# Altium integrated library Renesas Microprocessor SuperH.IntLib: 433 symbols (part 60 of 62)
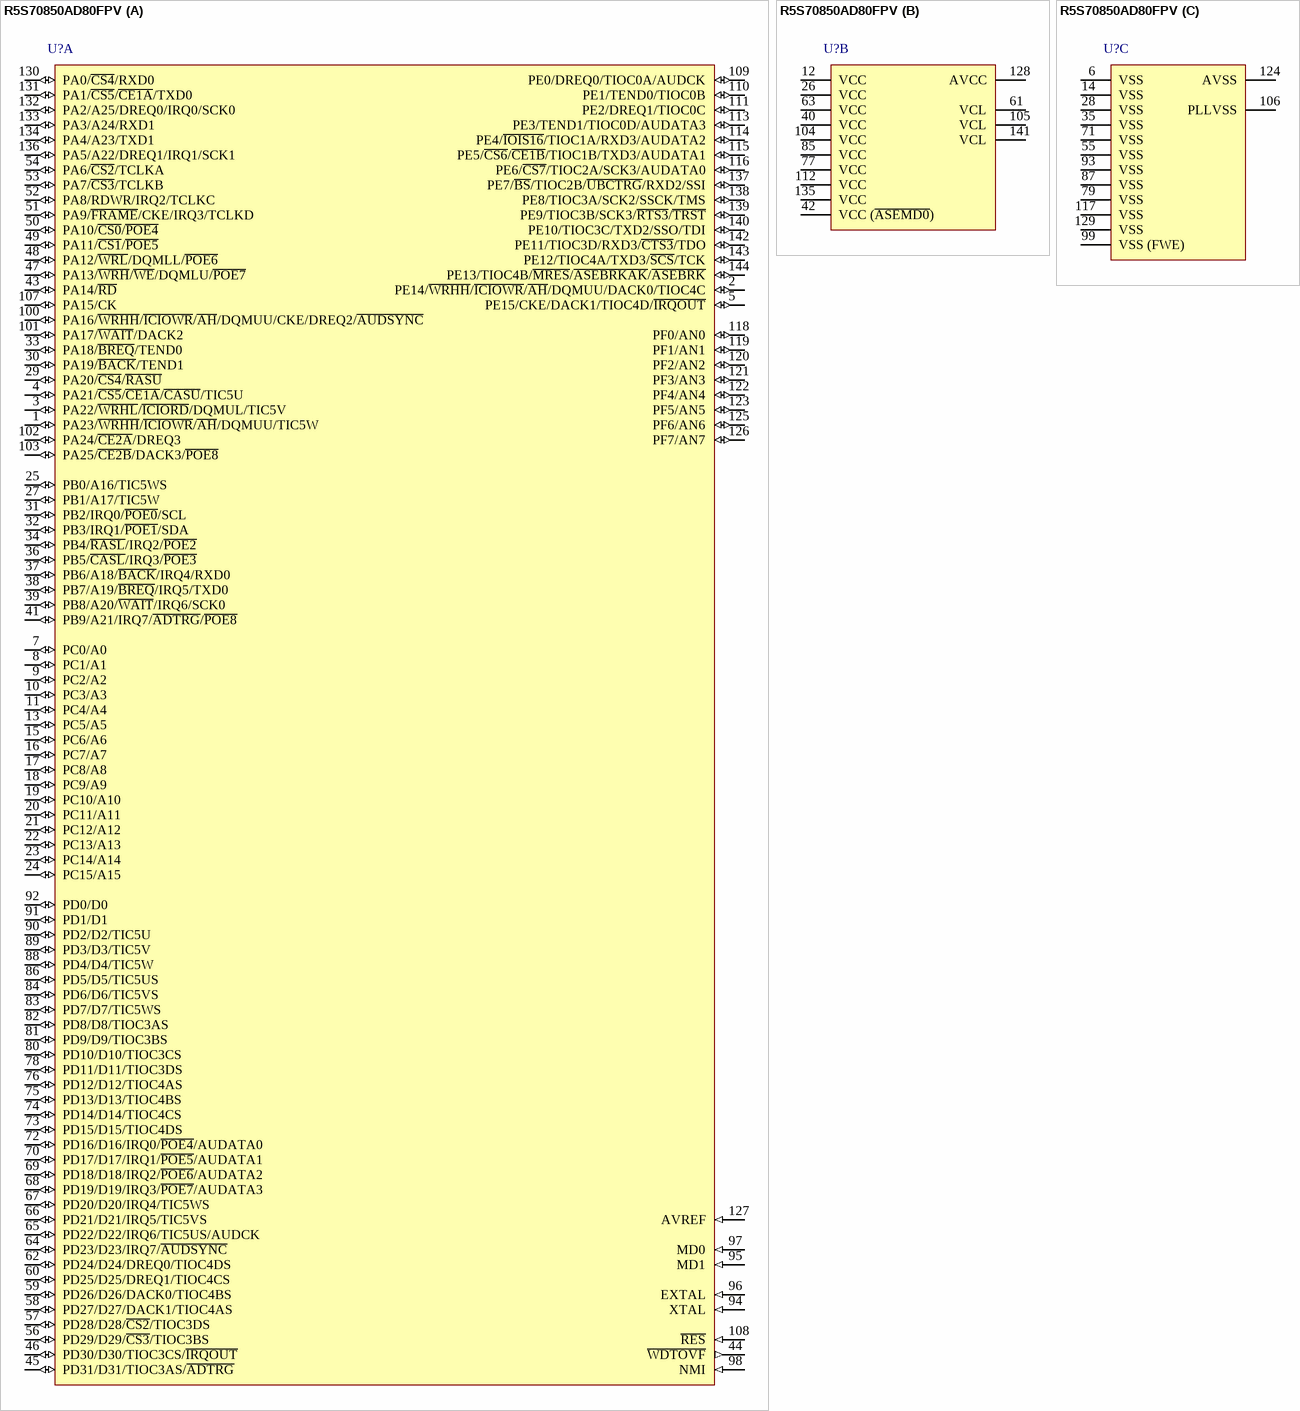
[diagram p415: symbol R5S70850AD80FPV]

## R5S70850AD80FPV
designator U?
32-Bit RISC Microcomputer, SH7080 Series, SH-2 core, 80MHz, 16K RAM, 144-pin PLQFP, -40 to 85°C; Published: 28-Aug-2009; LatestRevisionDate: 15-Feb-2010; LatestRevisionNote: Updated to datasheet revision 4.00 Dec-2009.; DatasheetVersion: Rev.4.00, Dec-2009; PackageVersion: Sep-2005; PackageReference: PLQP0144KA-A; Publisher: Altium Limited; PackageDescription: 144-Pin Plastic Low Profile QFP, 20 x 20 x 1.4 mm Body, 0.5 mm Pitch; Code_JEITA: P-LQFP144-20x20-0.50; Code_IPC: SQFP50P2200X2200-144; ComponentLink1Description: Manufacturer Link; ComponentLink1URL: http://www.renesas.com/fmwk.jsp?cnt=sh7080_root.jsp&fp=/products/mpumcu/superh_family/sh7080_series/sh7080_group/; ComponentLink2Description: Datasheet; ComponentLink2URL: http://documentation.renesas.com/eng/products/mpumcu/rej09b0181_sh7080.pdf; ComponentLink3Description: Packaging Specification; ComponentLink3URL: http://sg.renesas.com/media/products/common_info/package/pdf/ic/code/plqp0144ka_a.pdf
footprint PLQP0144KA-A_N (Shrink QFP, 144-Leads, Body 20x20mm, Pitch 0.5mm, IPC Medium Density)
footprint PLQP0144KA-A_L (Shrink QFP, 144-Leads, Body 20x20mm, Pitch 0.5mm, IPC High Density)
footprint PLQP0144KA-A_M (Shrink QFP, 144-Leads, Body 20x20mm, Pitch 0.5mm, IPC Low Density)
part A pins: 1 PA23/~{WRHH}/~{ICIOWR}/~{AH}/DQMUU/TIC5W (io), 2 PE14/~{WRHH}/~{ICIOWR}/~{AH}/DQMUU/DACK0/TIOC4C (io), 3 PA22/~{WRHL}/~{ICIORD}/DQMUL/TIC5V (io), 4 PA21/~{CS5}/~{CE1A}/~{CASU}/TIC5U (io), 5 PE15/CKE/DACK1/TIOC4D/~{IRQOUT} (io), 7 PC0/A0 (io), 8 PC1/A1 (io), 9 PC2/A2 (io), 10 PC3/A3 (io), 11 PC4/A4 (io), 13 PC5/A5 (io), 15 PC6/A6 (io), 16 PC7/A7 (io), 17 PC8/A8 (io), 18 PC9/A9 (io), 19 PC10/A10 (io), 20 PC11/A11 (io), 21 PC12/A12 (io), 22 PC13/A13 (io), 23 PC14/A14 (io), 24 PC15/A15 (io), 25 PB0/A16/TIC5WS (io), 27 PB1/A17/TIC5W (io), 29 PA20/~{CS4}/~{RASU} (io), 30 PA19/~{BACK}/TEND1 (io), 31 PB2/IRQ0/~{POE0}/SCL (io), 32 PB3/IRQ1/~{POE1}/SDA (io), 33 PA18/~{BREQ}/TEND0 (io), 34 PB4/~{RASL}/IRQ2/~{POE2} (io), 36 PB5/~{CASL}/IRQ3/~{POE3} (io), 37 PB6/A18/~{BACK}/IRQ4/RXD0 (io), 38 PB7/A19/~{BREQ}/IRQ5/TXD0 (io), 39 PB8/A20/~{WAIT}/IRQ6/SCK0 (io), 41 PB9/A21/IRQ7/~{ADTRG}/~{POE8} (io), 43 PA14/~{RD} (io), 44 ~{WDTOVF} (out), 45 PD31/D31/TIOC3AS/~{ADTRG} (io), 46 PD30/D30/TIOC3CS/~{IRQOUT} (io), 47 PA13/~{WRH}/~{WE}/DQMLU/~{POE7} (io), 48 PA12/~{WRL}/DQMLL/~{POE6} (io), 49 PA11/~{CS1}/~{POE5} (io), 50 PA10/~{CS0}/~{POE4} (io), 51 PA9/~{FRAME}/CKE/IRQ3/TCLKD (io), 52 PA8/RDWR/IRQ2/TCLKC (io), 53 PA7/~{CS3}/TCLKB (io), 54 PA6/~{CS2}/TCLKA (io), 56 PD29/D29/~{CS3}/TIOC3BS (io), 57 PD28/D28/~{CS2}/TIOC3DS (io), 58 PD27/D27/DACK1/TIOC4AS (io), 59 PD26/D26/DACK0/TIOC4BS (io), 60 PD25/D25/DREQ1/TIOC4CS (io), 62 PD24/D24/DREQ0/TIOC4DS (io), 64 PD23/D23/IRQ7/~{AUDSYNC} (io), 65 PD22/D22/IRQ6/TIC5US/AUDCK (io), 66 PD21/D21/IRQ5/TIC5VS (io), 67 PD20/D20/IRQ4/TIC5WS (io), 68 PD19/D19/IRQ3/~{POE7}/AUDATA3 (io), 69 PD18/D18/IRQ2/~{POE6}/AUDATA2 (io), 70 PD17/D17/IRQ1/~{POE5}/AUDATA1 (io), 72 PD16/D16/IRQ0/~{POE4}/AUDATA0 (io), 73 PD15/D15/TIOC4DS (io), 74 PD14/D14/TIOC4CS (io), 75 PD13/D13/TIOC4BS (io), 76 PD12/D12/TIOC4AS (io), 78 PD11/D11/TIOC3DS (io), 80 PD10/D10/TIOC3CS (io), 81 PD9/D9/TIOC3BS (io), 82 PD8/D8/TIOC3AS (io), 83 PD7/D7/TIC5WS (io), 84 PD6/D6/TIC5VS (io), 86 PD5/D5/TIC5US (io), 88 PD4/D4/TIC5W (io), 89 PD3/D3/TIC5V (io), 90 PD2/D2/TIC5U (io), 91 PD1/D1 (io), 92 PD0/D0 (io), 94 XTAL (in), 95 MD1 (in), 96 EXTAL (in), 97 MD0 (in), 98 NMI (in), 100 PA16/~{WRHH}/~{ICIOWR}/~{AH}/DQMUU/CKE/DREQ2/~{AUDSYNC} (io), 101 PA17/~{WAIT}/DACK2 (io), 102 PA24/~{CE2A}/DREQ3 (io), 103 PA25/~{CE2B}/DACK3/~{POE8} (io), 107 PA15/CK (io), 108 ~{RES} (in), 109 PE0/DREQ0/TIOC0A/AUDCK (io), 110 PE1/TEND0/TIOC0B (io), 111 PE2/DREQ1/TIOC0C (io), 113 PE3/TEND1/TIOC0D/AUDATA3 (io), 114 PE4/~{IOIS16}/TIOC1A/RXD3/AUDATA2 (io), 115 PE5/~{CS6}/~{CE1B}/TIOC1B/TXD3/AUDATA1 (io), 116 PE6/~{CS7}/TIOC2A/SCK3/AUDATA0 (io), 118 PF0/AN0 (io), 119 PF1/AN1 (io), 120 PF2/AN2 (io), 121 PF3/AN3 (io), 122 PF4/AN4 (io), 123 PF5/AN5 (io), 125 PF6/AN6 (io), 126 PF7/AN7 (io), 127 AVREF (in), 130 PA0/~{CS4}/RXD0 (io), 131 PA1/~{CS5}/~{CE1A}/TXD0 (io), 132 PA2/A25/DREQ0/IRQ0/SCK0 (io), 133 PA3/A24/RXD1 (io), 134 PA4/A23/TXD1 (io), 136 PA5/A22/DREQ1/IRQ1/SCK1 (io), 137 PE7/~{BS}/TIOC2B/~{UBCTRG}/RXD2/SSI (io), 138 PE8/TIOC3A/SCK2/SSCK/TMS (io), 139 PE9/TIOC3B/SCK3/~{RTS3}/~{TRST} (io), 140 PE10/TIOC3C/TXD2/SSO/TDI (io), 142 PE11/TIOC3D/RXD3/~{CTS3}/TDO (io), 143 PE12/TIOC4A/TXD3/~{SCS}/TCK (io), 144 PE13/TIOC4B/~{MRES}/~{ASEBRKAK}/~{ASEBRK} (io)
part B pins: 12 VCC (power), 26 VCC (power), 40 VCC (power), 42 VCC (~{ASEMD0}) (power), 61 VCL (power), 63 VCC (power), 77 VCC (power), 85 VCC (power), 104 VCC (power), 105 VCL (power), 112 VCC (power), 128 AVCC (power), 135 VCC (power), 141 VCL (power)
part C pins: 6 VSS (power), 14 VSS (power), 28 VSS (power), 35 VSS (power), 55 VSS (power), 71 VSS (power), 79 VSS (power), 87 VSS (power), 93 VSS (power), 99 VSS (FWE) (power), 106 PLLVSS (power), 117 VSS (power), 124 AVSS (power), 129 VSS (power)

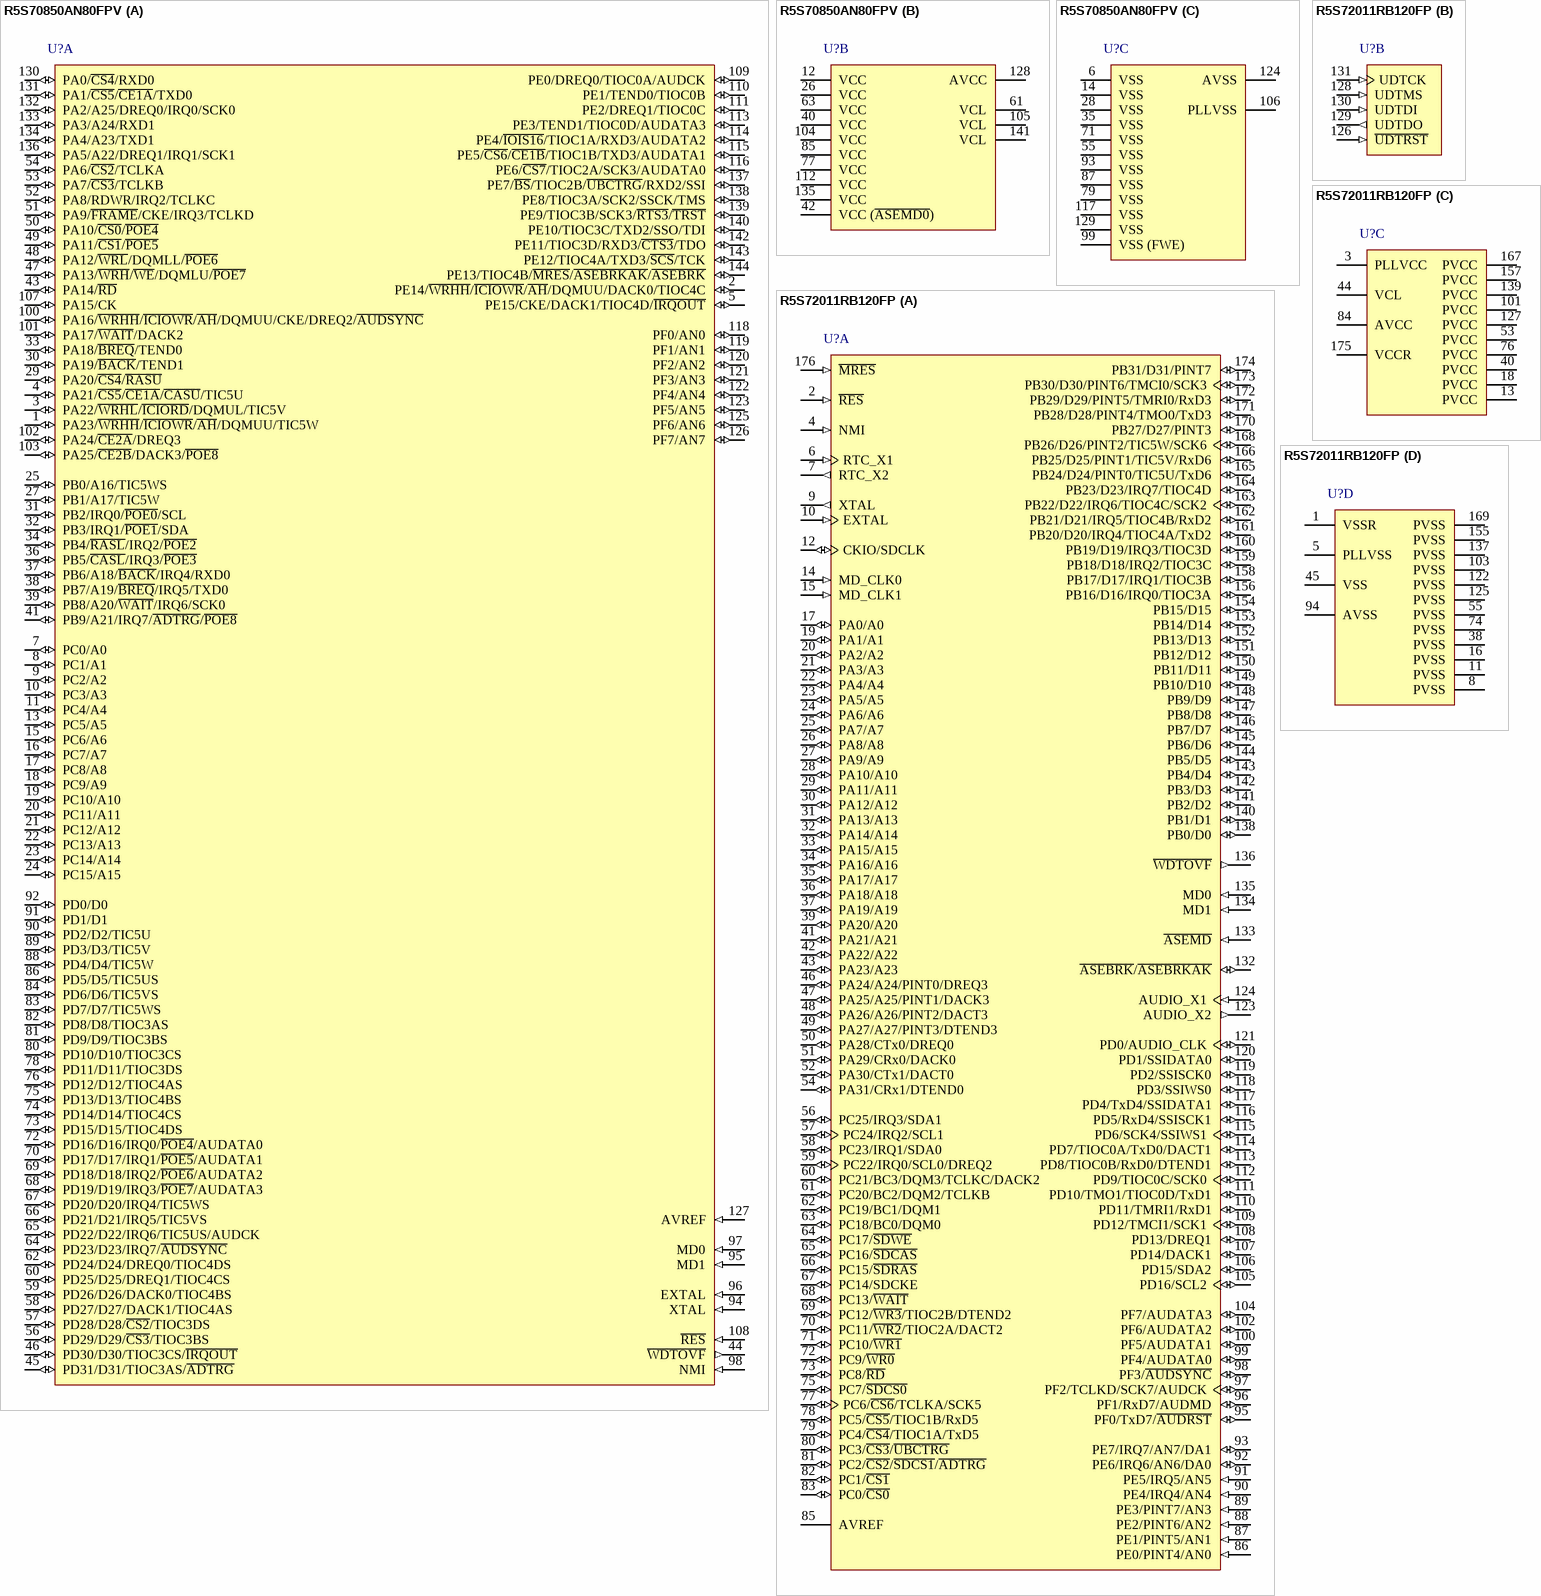
[diagram p203: symbols R5S70850AN80FPV to R5S72011RB120FP]

## R5S70850AN80FPV
designator U?
32-Bit RISC Microcomputer, SH7080 Series, SH-2 core, 80MHz, 16K RAM, 144-pin PLQFP, -20 to 85°C; Published: 28-Aug-2009; LatestRevisionDate: 15-Feb-2010; LatestRevisionNote: Updated to datasheet revision 4.00 Dec-2009.; DatasheetVersion: Rev.4.00, Dec-2009; PackageVersion: Sep-2005; PackageReference: PLQP0144KA-A; Publisher: Altium Limited; PackageDescription: 144-Pin Plastic Low Profile QFP, 20 x 20 x 1.4 mm Body, 0.5 mm Pitch; Code_JEITA: P-LQFP144-20x20-0.50; Code_IPC: SQFP50P2200X2200-144; ComponentLink1Description: Manufacturer Link; ComponentLink1URL: http://www.renesas.com/fmwk.jsp?cnt=sh7080_root.jsp&fp=/products/mpumcu/superh_family/sh7080_series/sh7080_group/; ComponentLink2Description: Datasheet; ComponentLink2URL: http://documentation.renesas.com/eng/products/mpumcu/rej09b0181_sh7080.pdf; ComponentLink3Description: Packaging Specification; ComponentLink3URL: http://sg.renesas.com/media/products/common_info/package/pdf/ic/code/plqp0144ka_a.pdf
footprint PLQP0144KA-A_N (Shrink QFP, 144-Leads, Body 20x20mm, Pitch 0.5mm, IPC Medium Density)
footprint PLQP0144KA-A_L (Shrink QFP, 144-Leads, Body 20x20mm, Pitch 0.5mm, IPC High Density)
footprint PLQP0144KA-A_M (Shrink QFP, 144-Leads, Body 20x20mm, Pitch 0.5mm, IPC Low Density)
part A pins: 1 PA23/~{WRHH}/~{ICIOWR}/~{AH}/DQMUU/TIC5W (io), 2 PE14/~{WRHH}/~{ICIOWR}/~{AH}/DQMUU/DACK0/TIOC4C (io), 3 PA22/~{WRHL}/~{ICIORD}/DQMUL/TIC5V (io), 4 PA21/~{CS5}/~{CE1A}/~{CASU}/TIC5U (io), 5 PE15/CKE/DACK1/TIOC4D/~{IRQOUT} (io), 7 PC0/A0 (io), 8 PC1/A1 (io), 9 PC2/A2 (io), 10 PC3/A3 (io), 11 PC4/A4 (io), 13 PC5/A5 (io), 15 PC6/A6 (io), 16 PC7/A7 (io), 17 PC8/A8 (io), 18 PC9/A9 (io), 19 PC10/A10 (io), 20 PC11/A11 (io), 21 PC12/A12 (io), 22 PC13/A13 (io), 23 PC14/A14 (io), 24 PC15/A15 (io), 25 PB0/A16/TIC5WS (io), 27 PB1/A17/TIC5W (io), 29 PA20/~{CS4}/~{RASU} (io), 30 PA19/~{BACK}/TEND1 (io), 31 PB2/IRQ0/~{POE0}/SCL (io), 32 PB3/IRQ1/~{POE1}/SDA (io), 33 PA18/~{BREQ}/TEND0 (io), 34 PB4/~{RASL}/IRQ2/~{POE2} (io), 36 PB5/~{CASL}/IRQ3/~{POE3} (io), 37 PB6/A18/~{BACK}/IRQ4/RXD0 (io), 38 PB7/A19/~{BREQ}/IRQ5/TXD0 (io), 39 PB8/A20/~{WAIT}/IRQ6/SCK0 (io), 41 PB9/A21/IRQ7/~{ADTRG}/~{POE8} (io), 43 PA14/~{RD} (io), 44 ~{WDTOVF} (out), 45 PD31/D31/TIOC3AS/~{ADTRG} (io), 46 PD30/D30/TIOC3CS/~{IRQOUT} (io), 47 PA13/~{WRH}/~{WE}/DQMLU/~{POE7} (io), 48 PA12/~{WRL}/DQMLL/~{POE6} (io), 49 PA11/~{CS1}/~{POE5} (io), 50 PA10/~{CS0}/~{POE4} (io), 51 PA9/~{FRAME}/CKE/IRQ3/TCLKD (io), 52 PA8/RDWR/IRQ2/TCLKC (io), 53 PA7/~{CS3}/TCLKB (io), 54 PA6/~{CS2}/TCLKA (io), 56 PD29/D29/~{CS3}/TIOC3BS (io), 57 PD28/D28/~{CS2}/TIOC3DS (io), 58 PD27/D27/DACK1/TIOC4AS (io), 59 PD26/D26/DACK0/TIOC4BS (io), 60 PD25/D25/DREQ1/TIOC4CS (io), 62 PD24/D24/DREQ0/TIOC4DS (io), 64 PD23/D23/IRQ7/~{AUDSYNC} (io), 65 PD22/D22/IRQ6/TIC5US/AUDCK (io), 66 PD21/D21/IRQ5/TIC5VS (io), 67 PD20/D20/IRQ4/TIC5WS (io), 68 PD19/D19/IRQ3/~{POE7}/AUDATA3 (io), 69 PD18/D18/IRQ2/~{POE6}/AUDATA2 (io), 70 PD17/D17/IRQ1/~{POE5}/AUDATA1 (io), 72 PD16/D16/IRQ0/~{POE4}/AUDATA0 (io), 73 PD15/D15/TIOC4DS (io), 74 PD14/D14/TIOC4CS (io), 75 PD13/D13/TIOC4BS (io), 76 PD12/D12/TIOC4AS (io), 78 PD11/D11/TIOC3DS (io), 80 PD10/D10/TIOC3CS (io), 81 PD9/D9/TIOC3BS (io), 82 PD8/D8/TIOC3AS (io), 83 PD7/D7/TIC5WS (io), 84 PD6/D6/TIC5VS (io), 86 PD5/D5/TIC5US (io), 88 PD4/D4/TIC5W (io), 89 PD3/D3/TIC5V (io), 90 PD2/D2/TIC5U (io), 91 PD1/D1 (io), 92 PD0/D0 (io), 94 XTAL (in), 95 MD1 (in), 96 EXTAL (in), 97 MD0 (in), 98 NMI (in), 100 PA16/~{WRHH}/~{ICIOWR}/~{AH}/DQMUU/CKE/DREQ2/~{AUDSYNC} (io), 101 PA17/~{WAIT}/DACK2 (io), 102 PA24/~{CE2A}/DREQ3 (io), 103 PA25/~{CE2B}/DACK3/~{POE8} (io), 107 PA15/CK (io), 108 ~{RES} (in), 109 PE0/DREQ0/TIOC0A/AUDCK (io), 110 PE1/TEND0/TIOC0B (io), 111 PE2/DREQ1/TIOC0C (io), 113 PE3/TEND1/TIOC0D/AUDATA3 (io), 114 PE4/~{IOIS16}/TIOC1A/RXD3/AUDATA2 (io), 115 PE5/~{CS6}/~{CE1B}/TIOC1B/TXD3/AUDATA1 (io), 116 PE6/~{CS7}/TIOC2A/SCK3/AUDATA0 (io), 118 PF0/AN0 (io), 119 PF1/AN1 (io), 120 PF2/AN2 (io), 121 PF3/AN3 (io), 122 PF4/AN4 (io), 123 PF5/AN5 (io), 125 PF6/AN6 (io), 126 PF7/AN7 (io), 127 AVREF (in), 130 PA0/~{CS4}/RXD0 (io), 131 PA1/~{CS5}/~{CE1A}/TXD0 (io), 132 PA2/A25/DREQ0/IRQ0/SCK0 (io), 133 PA3/A24/RXD1 (io), 134 PA4/A23/TXD1 (io), 136 PA5/A22/DREQ1/IRQ1/SCK1 (io), 137 PE7/~{BS}/TIOC2B/~{UBCTRG}/RXD2/SSI (io), 138 PE8/TIOC3A/SCK2/SSCK/TMS (io), 139 PE9/TIOC3B/SCK3/~{RTS3}/~{TRST} (io), 140 PE10/TIOC3C/TXD2/SSO/TDI (io), 142 PE11/TIOC3D/RXD3/~{CTS3}/TDO (io), 143 PE12/TIOC4A/TXD3/~{SCS}/TCK (io), 144 PE13/TIOC4B/~{MRES}/~{ASEBRKAK}/~{ASEBRK} (io)
part B pins: 12 VCC (power), 26 VCC (power), 40 VCC (power), 42 VCC (~{ASEMD0}) (power), 61 VCL (power), 63 VCC (power), 77 VCC (power), 85 VCC (power), 104 VCC (power), 105 VCL (power), 112 VCC (power), 128 AVCC (power), 135 VCC (power), 141 VCL (power)
part C pins: 6 VSS (power), 14 VSS (power), 28 VSS (power), 35 VSS (power), 55 VSS (power), 71 VSS (power), 79 VSS (power), 87 VSS (power), 93 VSS (power), 99 VSS (FWE) (power), 106 PLLVSS (power), 117 VSS (power), 124 AVSS (power), 129 VSS (power)

## R5S72011RB120FP
designator U?
32-Bit RISC Microcomputer, SH7200 Series, SH-2A core, 120MHz, 32K RAM, 24x24mm 176-pin PLQFP, -20 to 70°C; Published: 28-Aug-2009; DatasheetVersion: Rev.2.00, Sep-2007; PackageVersion: Oct-2005; PackageReference: PLQP0176KB-A; Publisher: Altium Limited; PackageDescription: 176-Pin Plastic Low Profile QFP, 24 x 24 x 1.4 mm Body, 0.5 mm Pitch; Code_JEITA: P-LQFP176-24x24-0.50; ComponentLink1Description: Manufacturer Link; ComponentLink1URL: http://www.renesas.com/fmwk.jsp?cnt=sh7201_root.jsp&fp=/products/mpumcu/superh_family/sh7200_series/sh7201_group/; ComponentLink2Description: Datasheet; ComponentLink2URL: http://documentation.renesas.com/eng/products/mpumcu/rej09b0321_sh7201hm.pdf; ComponentLink3Description: Packaging Specification; ComponentLink3URL: http://sg.renesas.com/media/products/common_info/package/pdf/ic/code/plqp0176kb_a.pdf
footprint PLQP0176KB-A_N (Shrink QFP, 176-Leads, Body 24x24mm, Pitch 0.5mm, IPC Medium Density)
footprint PLQP0176KB-A_L (Shrink QFP, 176-Leads, Body 24x24mm, Pitch 0.5mm, IPC High Density)
footprint PLQP0176KB-A_M (Shrink QFP, 176-Leads, Body 24x24mm, Pitch 0.5mm, IPC Low Density)
part A pins: 2 ~{RES} (in), 4 NMI (in), 6 RTC_X1 (in), 7 RTC_X2 (out), 9 XTAL (out), 10 EXTAL (in), 12 CKIO/SDCLK (io), 14 MD_CLK0 (in), 15 MD_CLK1 (in), 17 PA0/A0 (io), 19 PA1/A1 (io), 20 PA2/A2 (io), 21 PA3/A3 (io), 22 PA4/A4 (io), 23 PA5/A5 (io), 24 PA6/A6 (io), 25 PA7/A7 (io), 26 PA8/A8 (io), 27 PA9/A9 (io), 28 PA10/A10 (io), 29 PA11/A11 (io), 30 PA12/A12 (io), 31 PA13/A13 (io), 32 PA14/A14 (io), 33 PA15/A15 (io), 34 PA16/A16 (io), 35 PA17/A17 (io), 36 PA18/A18 (io), 37 PA19/A19 (io), 39 PA20/A20 (io), 41 PA21/A21 (io), 42 PA22/A22 (io), 43 PA23/A23 (io), 46 PA24/A24/PINT0/DREQ3 (io), 47 PA25/A25/PINT1/DACK3 (io), 48 PA26/A26/PINT2/DACT3 (io), 49 PA27/A27/PINT3/DTEND3 (io), 50 PA28/CTx0/DREQ0 (io), 51 PA29/CRx0/DACK0 (io), 52 PA30/CTx1/DACT0 (io), 54 PA31/CRx1/DTEND0 (io), 56 PC25/IRQ3/SDA1 (io), 57 PC24/IRQ2/SCL1 (io), 58 PC23/IRQ1/SDA0 (io), 59 PC22/IRQ0/SCL0/DREQ2 (io), 60 PC21/BC3/DQM3/TCLKC/DACK2 (io), 61 PC20/BC2/DQM2/TCLKB (io), 62 PC19/BC1/DQM1 (io), 63 PC18/BC0/DQM0 (io), 64 PC17/~{SDWE} (io), 65 PC16/~{SDCAS} (io), 66 PC15/~{SDRAS} (io), 67 PC14/SDCKE (io), 68 PC13/~{WAIT} (io), 69 PC12/~{WR3}/TIOC2B/DTEND2 (io), 70 PC11/~{WR2}/TIOC2A/DACT2 (io), 71 PC10/~{WR1} (io), 72 PC9/~{WR0} (io), 73 PC8/~{RD} (io), 75 PC7/~{SDCS0} (io), 77 PC6/~{CS6}/TCLKA/SCK5 (io), 78 PC5/~{CS5}/TIOC1B/RxD5 (io), 79 PC4/~{CS4}/TIOC1A/TxD5 (io), 80 PC3/~{CS3}/~{UBCTRG} (io), 81 PC2/~{CS2}/~{SDCS1}/~{ADTRG} (io), 82 PC1/~{CS1} (io), 83 PC0/~{CS0} (io), 85 AVREF (power), 86 PE0/PINT4/AN0 (in), 87 PE1/PINT5/AN1 (in), 88 PE2/PINT6/AN2 (in), 89 PE3/PINT7/AN3 (in), 90 PE4/IRQ4/AN4 (in), 91 PE5/IRQ5/AN5 (in), 92 PE6/IRQ6/AN6/DA0 (io), 93 PE7/IRQ7/AN7/DA1 (io), 95 PF0/TxD7/~{AUDRST} (io), 96 PF1/RxD7/AUDMD (io), 97 PF2/TCLKD/SCK7/AUDCK (io), 98 PF3/~{AUDSYNC} (io), 99 PF4/AUDATA0 (io), 100 PF5/AUDATA1 (io), 102 PF6/AUDATA2 (io), 104 PF7/AUDATA3 (io), 105 PD16/SCL2 (io), 106 PD15/SDA2 (io), 107 PD14/DACK1 (io), 108 PD13/DREQ1 (io), 109 PD12/TMCI1/SCK1 (io), 110 PD11/TMRI1/RxD1 (io), 111 PD10/TMO1/TIOC0D/TxD1 (io), 112 PD9/TIOC0C/SCK0 (io), 113 PD8/TIOC0B/RxD0/DTEND1 (io), 114 PD7/TIOC0A/TxD0/DACT1 (io), 115 PD6/SCK4/SSIWS1 (io), 116 PD5/RxD4/SSISCK1 (io), 117 PD4/TxD4/SSIDATA1 (io), 118 PD3/SSIWS0 (io), 119 PD2/SSISCK0 (io), 120 PD1/SSIDATA0 (io), 121 PD0/AUDIO_CLK (io), 123 AUDIO_X2 (out), 124 AUDIO_X1 (in), 132 ~{ASEBRK}/~{ASEBRKAK} (io), 133 ~{ASEMD} (in), 134 MD1 (in), 135 MD0 (in), 136 ~{WDTOVF} (out), 138 PB0/D0 (io), 140 PB1/D1 (io), 141 PB2/D2 (io), 142 PB3/D3 (io), 143 PB4/D4 (io), 144 PB5/D5 (io), 145 PB6/D6 (io), 146 PB7/D7 (io), 147 PB8/D8 (io), 148 PB9/D9 (io), 149 PB10/D10 (io), 150 PB11/D11 (io), 151 PB12/D12 (io), 152 PB13/D13 (io), 153 PB14/D14 (io), 154 PB15/D15 (io), 156 PB16/D16/IRQ0/TIOC3A (io), 158 PB17/D17/IRQ1/TIOC3B (io), 159 PB18/D18/IRQ2/TIOC3C (io), 160 PB19/D19/IRQ3/TIOC3D (io), 161 PB20/D20/IRQ4/TIOC4A/TxD2 (io), 162 PB21/D21/IRQ5/TIOC4B/RxD2 (io), 163 PB22/D22/IRQ6/TIOC4C/SCK2 (io), 164 PB23/D23/IRQ7/TIOC4D (io), 165 PB24/D24/PINT0/TIC5U/TxD6 (io), 166 PB25/D25/PINT1/TIC5V/RxD6 (io), 168 PB26/D26/PINT2/TIC5W/SCK6 (io), 170 PB27/D27/PINT3 (io), 171 PB28/D28/PINT4/TMO0/TxD3 (io), 172 PB29/D29/PINT5/TMRI0/RxD3 (io), 173 PB30/D30/PINT6/TMCI0/SCK3 (io), 174 PB31/D31/PINT7 (io), 176 ~{MRES} (in)
part B pins: 126 ~{UDTRST} (in), 128 UDTMS (in), 129 UDTDO (out), 130 UDTDI (in), 131 UDTCK (in)
part C pins: 3 PLLVCC (power), 13 PVCC (power), 18 PVCC (power), 40 PVCC (power), 44 VCL (power), 53 PVCC (power), 76 PVCC (power), 84 AVCC (power), 101 PVCC (power), 127 PVCC (power), 139 PVCC (power), 157 PVCC (power), 167 PVCC (power), 175 VCCR (power)
part D pins: 1 VSSR (power), 5 PLLVSS (power), 8 PVSS (power), 11 PVSS (power), 16 PVSS (power), 38 PVSS (power), 45 VSS (power), 55 PVSS (power), 74 PVSS (power), 94 AVSS (power), 103 PVSS (power), 122 PVSS (power), 125 PVSS (power), 137 PVSS (power), 155 PVSS (power), 169 PVSS (power)

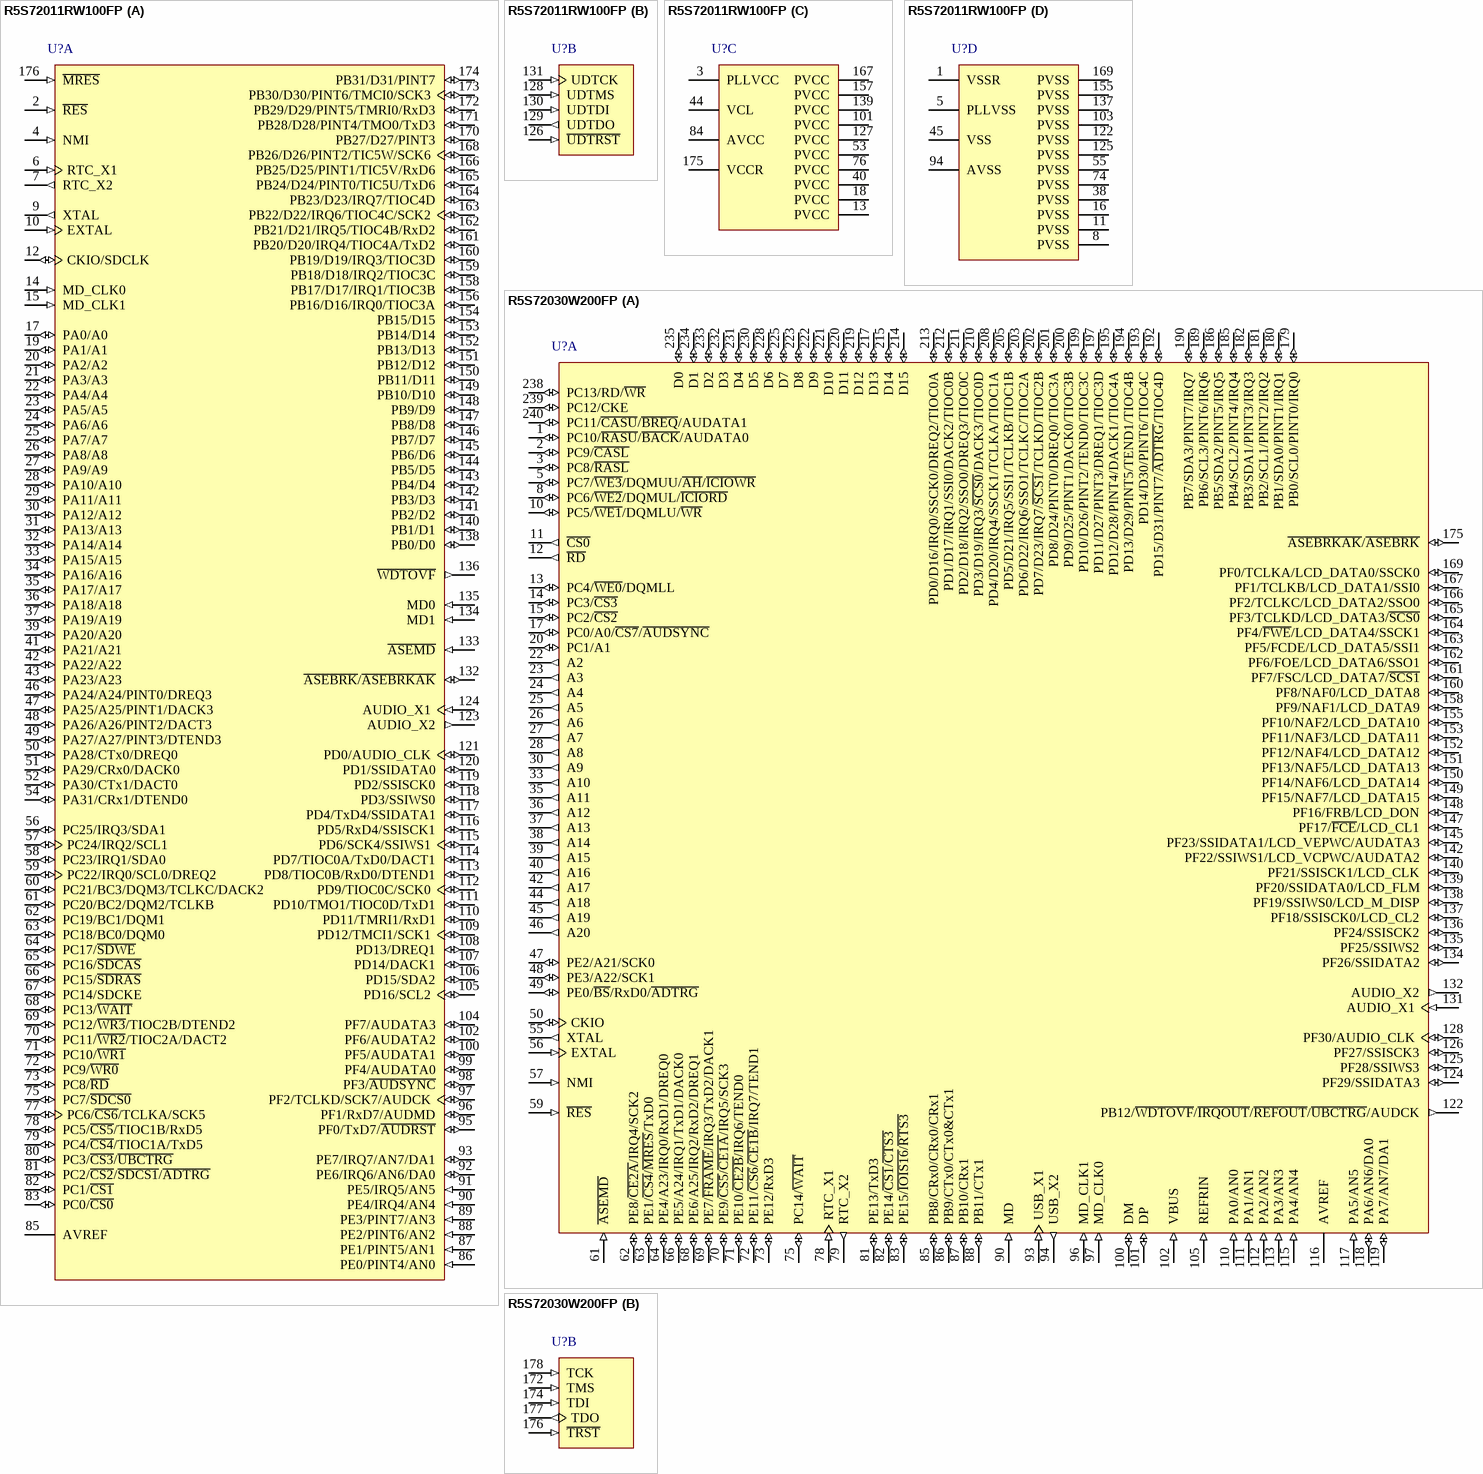
[diagram p204: symbols R5S72011RW100FP to R5S72030W200FP]